# Altium footprint library Inductors.PcbLib: 5 footprints
Each footprint in its own frame and in the unit in brackets; x right, y up, seen from the top. Pads: shape width x height; smd on the part's side, far side on the other; paste and mask are expansions set on the pad; w line width, h text height; cw(c..) or ccw(c..) is an arc to the next point about the centre after c.
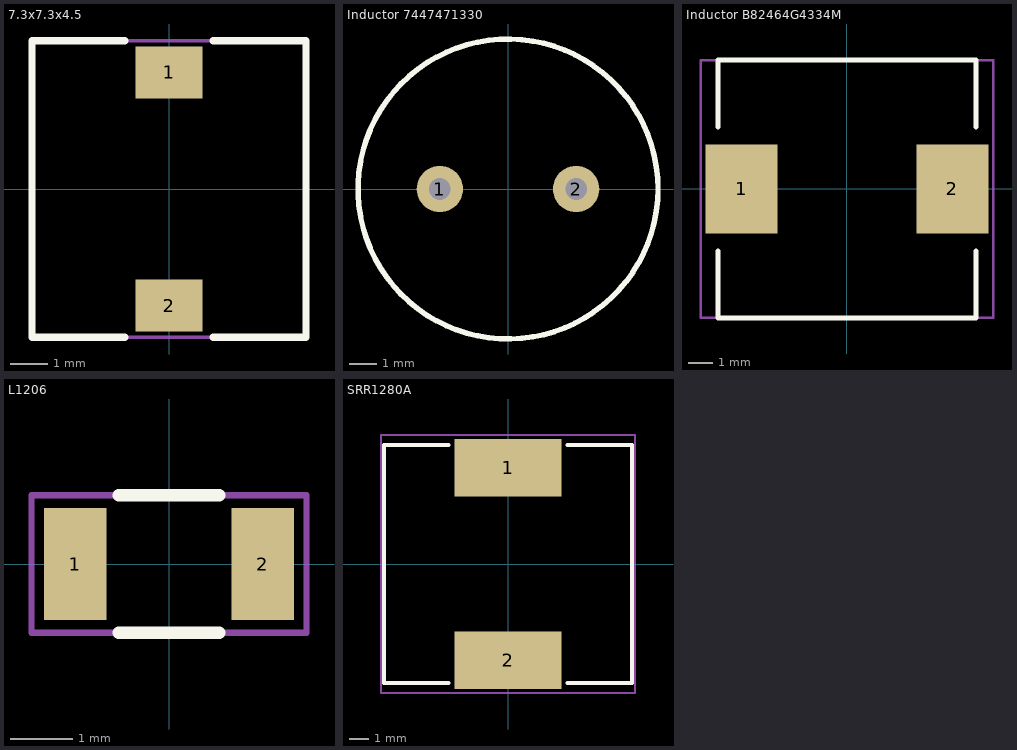
[diagram p0: the footprints below, top view; thin cyan lines are the x and y axes]

## 7.3x7.3x4.5 [mm]
pads (2):
  rect 1.8x1.4 smd: 1(0,3.15) 2(0,-3.15)
Top Overlay:
  lines w0.2: -1.2,-4 -3.7,-4 -3.7,4 -1.2,4 ; 1.2,-4 3.7,-4 3.7,4 1.2,4
Border:
  lines w0.1: -3.7,-4 -3.7,4 3.7,4 3.7,-4 -3.7,-4
3D body "User Library-WE-PD Series 7_3x7_3x4_5mm.STEP": height 4.6, standoff 0, extent -3.65,-3.65 3.65,3.65

## Inductor 7447471330 [mm]
pads (2):
  round 1.7 hole 0.8: 1(-2.5,0) 2(2.5,0)
Top Overlay:
  circle w0.2: c0,0 r5.5
Border:
  circle w0.1: c0,0 r5.5
3D body "Inductor 7447471330.stp": height 12, standoff -3.5, extent -5.5,-5.5 5.5,5.5

## Inductor B82464G4334M [mm]
pads (2):
  rect 2.9x3.6 smd: 1(-4.25,0) 2(4.25,0)
Top Overlay:
  lines w0.2: -5.2,-2.5 -5.2,-5.2 5.2,-5.2 5.2,-2.5 ; -5.2,2.5 -5.2,5.2 5.2,5.2 5.2,2.5
Border:
  lines w0.1: -5.9,-5.2 -5.9,5.2 5.9,5.2 5.9,-5.2 -5.9,-5.2
3D body "User Library-10x10 SMT Power Inductor.STEP": height 4.8, standoff 0, extent -5.2,-5.2 5.2,5.2

## L1206 [mm]
pads (2):
  rect 1x1.8 smd: 1(-1.5,0) 2(1.5,0)
Top Overlay:
  lines w0.2: -0.8,-1.1 0.8,-1.1 ; -0.8,1.1 0.8,1.1
Border:
  lines w0.1: -2.2,-1.1 -2.2,1.1 2.2,1.1 2.2,-1.1 -2.2,-1.1
3D body "User Library-1206 SMD Resistor.STEP": height 1, standoff 0, extent -1.6,-0.8 1.6,0.8

## SRR1280A [mm]
pads (2):
  rect 5.4x2.9 smd: 1(0,4.85) 2(0,-4.85)
Top Overlay:
  lines w0.2: -3,-6 -6.25,-6 -6.25,6 -3,6 ; 3,-6 6.25,-6 6.25,6 3,6
Border:
  lines w0.1: -6.4,-6.5 -6.4,6.5 6.4,6.5 6.4,-6.5 -6.4,-6.5
3D body "User Library-Inductor SRR1280 Series.STEP": height 7.51, standoff 0, extent -6.25,-6.25 6.25,6.25